# Altium footprint library 直插.PcbLib: 159 footprints (part 9 of 10)
Each footprint in its own frame and in the unit in brackets; x right, y up, seen from the top. Pads: shape width x height; smd on the part's side, far side on the other; paste and mask are expansions set on the pad; w line width, h text height; cw(c..) or ccw(c..) is an arc to the next point about the centre after c.
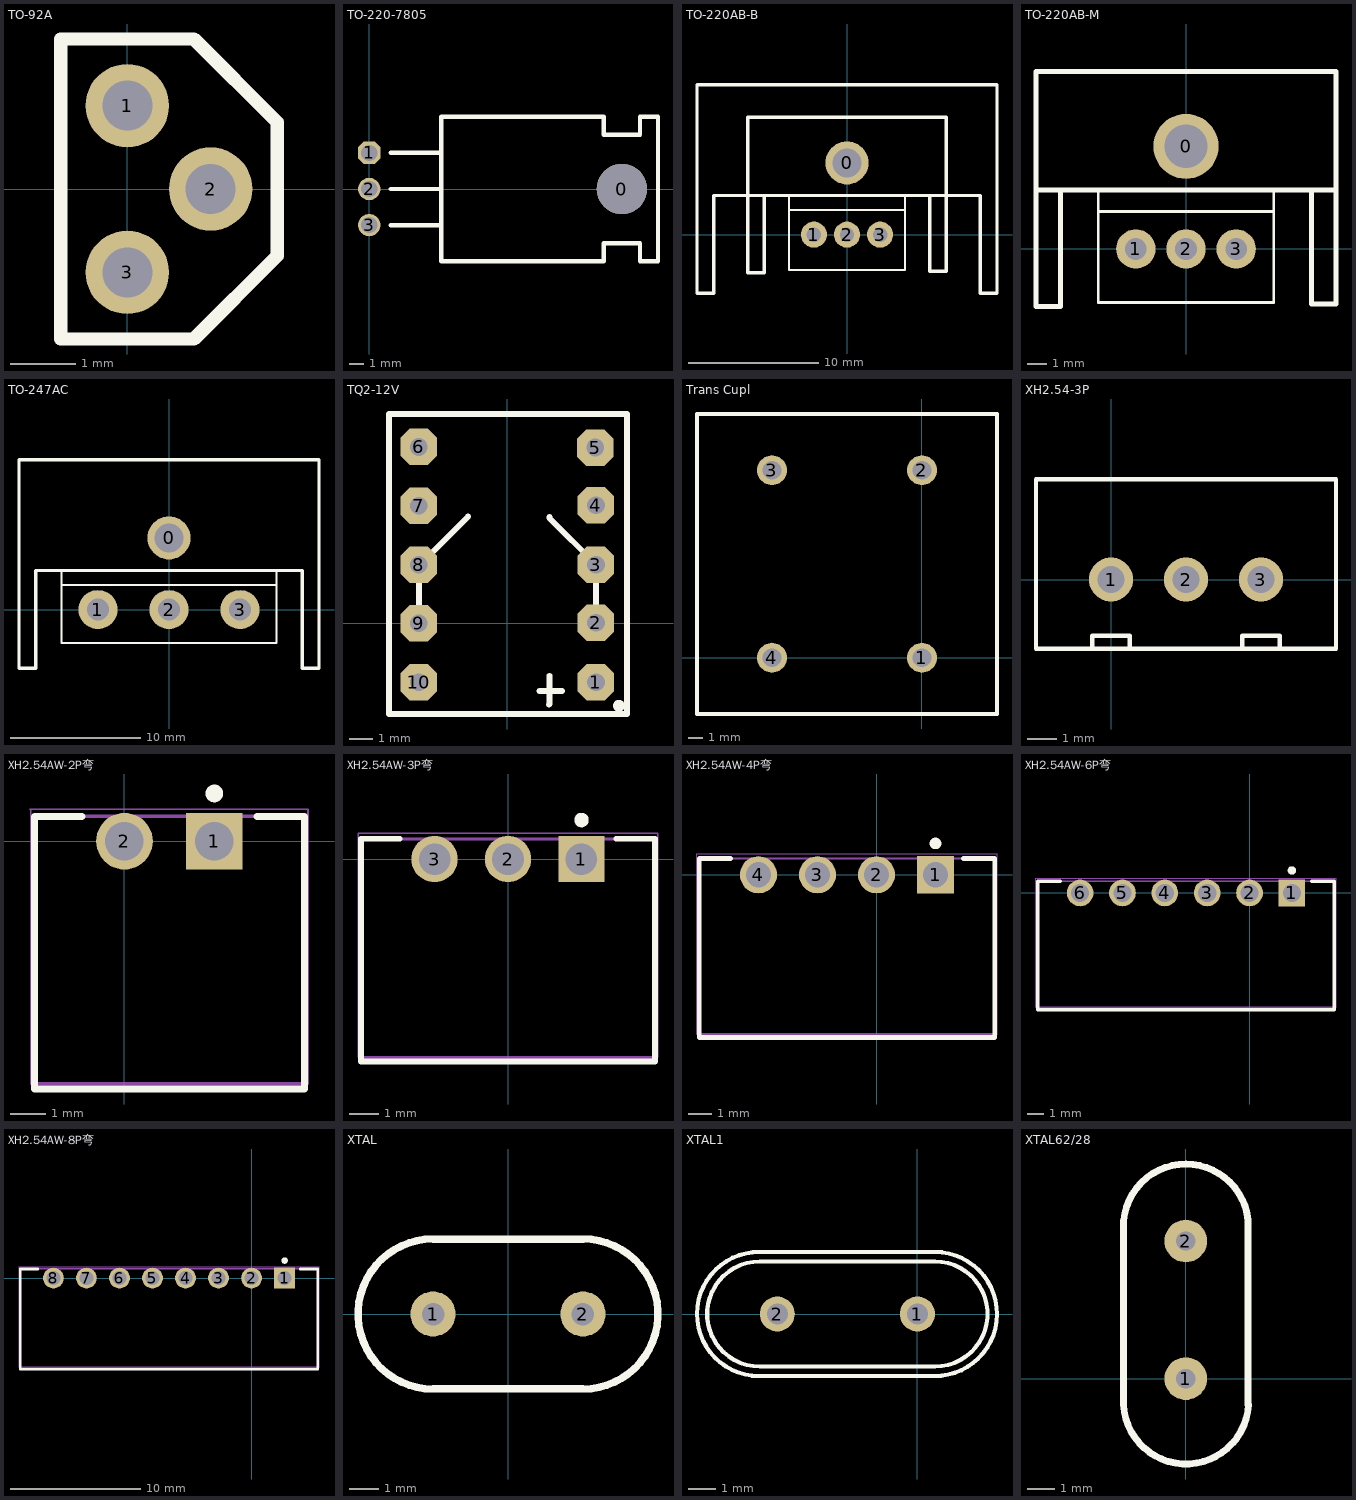
[diagram p8: the footprints below, top view; thin cyan lines are the x and y axes]

## TO-92A [mil]
pads (3):
  round 50 hole 30: 1(0,50) 2(50,0) 3(0,-50)
Top Overlay:
  lines w8: -40,-90 -40,90 40,90 90,40 90,-40 40,-90 -40,-90

## TO-220-7805 [mil]
pads (4):
  round 139.37 hole 137.79: 0(700,0)
  oct 62x62 hole 45: 1(0,100)
  round 62 hole 45: 2(0,0) 3(0,-100)
Top Overlay:
  lines w12: 60,-100 200,-100 ; 60,0 200,0 ; 60,100 200,100 ; 200,-200 200,200 650,200 650,150 750,150 750,200 800,200 800,-200 750,-200 750,-150 650,-150 650,-200 200,-200

## TO-220AB-B [mm] "IRFZ44N"
height 22
pads (4):
  round 3.3 hole 2.2: 0(0,5.5)
  round 2 hole 1.1: 1(-2.54,0) 2(0,0) 3(2.54,0)
Top Overlay:
  lines w0.15: -4.445,3 -4.445,1.905 ; 4.445,3 4.445,1.905 ; -4.445,1.905 -4.445,-2.7 4.445,-2.7 4.445,1.905 ; -4.445,1.905 4.445,1.905
  lines w0.254: -10.215,2.993 -10.215,-4.5 -11.5,-4.5 -11.5,11.5 11.5,11.5 11.5,-4.5 10.215,-4.5 10.215,3 -10.215,3 ; -7.6,3 7.6,3 ; -6.35,3 -6.35,-2.921 -7.6,-2.921 -7.6,9 7.6,9 7.6,-2.794 6.35,-2.794 6.35,3

## TO-220AB-M [mm] "IRFZ44N"
height 22
pads (4):
  round 3.3 hole 2.2: 0(0,5.2)
  round 2 hole 1.1: 1(-2.54,0) 2(0,0) 3(2.54,0)
Top Overlay:
  lines w0.15: -4.445,3 -4.445,1.905 ; 4.445,3 4.445,1.905 ; -4.445,1.905 4.445,1.905 ; -4.445,1.905 -4.445,-2.7 4.445,-2.7 4.445,1.905
  lines w0.254: -7.6,3 7.6,3 ; -6.35,3 -6.35,-2.921 -7.6,-2.921 -7.6,9 7.6,9 7.6,-2.794 6.35,-2.794 6.35,3

## TO-247AC [mm] "IRFP044"
height 25
pads (4):
  round 3.3 hole 2.2: 0(0,5.5)
  round 3 hole 1.7: 1(-5.45,0) 2(0,0) 3(5.45,0)
Top Overlay:
  lines w0.15: -8.255,3 -8.255,-2.54 8.255,-2.54 8.255,3 ; -8.128,1.905 8.255,1.905
  lines w0.254: -10.215,2.993 -10.215,-4.5 -11.5,-4.5 -11.5,11.5 11.5,11.5 11.5,-4.5 10.215,-4.5 10.215,3 -10.215,3

## TQ2-12V [mil]
height 68.9
pads (10):
  oct 62x62 hole 30: 1(151,-100) 2(151,1) 3(151,100) 4(151,201) 5(150,299) 6(-150,300) 7(-150,200) 8(-150,100) 9(-150,0) 10(-150,-100)
Top Overlay:
  circle w10: c190,-140 r5
  lines w10: -150,0 -150,100 -143,107 ; -148,99 -142,99 ; -144,104 -66.5,181.5 ; 55,-115 93,-115 ; 71,-138 72,-137 72,-89 ; 72,181 72,179 151,100 151,1 ; -201,-154 -201,356 204,356 204,-154 -201,-154

## Trans Cupl [mil]
pads (4):
  round 80 hole 50: 1(0,0) 2(0,500) 3(-400,500) 4(-400,0)
Top Overlay:
  lines w10: -600,-150 -600,650 200,650 200,-150 -600,-150

## XH2.54-3P [mm] "XH2.54-3P座子"
height 7
pads (3):
  round 1.5 hole 0.9: 1(0,0) 2(2.54,0) 3(5.08,0)
Top Overlay:
  lines w0.15: -0.635,-2.35 -0.635,-1.905 0.635,-1.905 0.635,-2.35 ; 4.445,-2.35 4.445,-1.905 5.715,-1.905 5.715,-2.35 ; -2.54,-2.35 7.62,-2.35 7.62,3.4 -2.54,3.4 -2.54,-2.35

## XH2.54AW-2P弯 [mm] "Male Header, 2-Leads, Body 13.59x10.17mm, Pitch 2.54mm"
height 6.99
pads (2):
  rect 1.6x1.6 hole 1.09: 1(2.54,0)
  round 1.6 hole 1.09: 2(0,0)
Top Overlay:
  circle w0.25: c2.54,1.35 r0.125
  lines w0.2: -2.545,-7 5.085,-7 5.085,0.7 3.74,0.7 ; -2.545,-6.985 -2.545,0.7 -1.2,0.7
Mechanical 13:
  lines w0.1: -2.545,-6.858 5.017,-6.858 5.085,-6.79 5.085,0.7 -2.545,0.7 -2.545,-6.858
Mechanical 15:
  lines w0.05: -2.667,0.9 5.185,0.9 5.185,-6.858 -2.545,-6.858 ; -2.645,-6.858 -2.645,0.9
  lines w0.1: -0.5,0 0.5,0 ; 0,-0.5 0,0.5

## XH2.54AW-3P弯 [mm] "Male Header, 3-Leads, Body 13.59x10.17mm, Pitch 2.54mm"
height 6.99
pads (3):
  rect 1.6x1.6 hole 1.09: 1(2.54,0)
  round 1.6 hole 1.09: 2(0,0) 3(-2.54,0)
Top Overlay:
  circle w0.25: c2.54,1.35 r0.125
  lines w0.2: -5.085,-7 5.085,-7 5.085,0.7 3.74,0.7 ; -5.085,-6.985 -5.085,0.7 -3.74,0.7
Mechanical 13:
  lines w0.1: -5.085,-6.858 -5.085,0.7 5.085,0.7 5.085,-6.79 5.017,-6.858 -5.085,-6.858
Mechanical 15:
  lines w0.05: -5.185,-6.858 -5.185,0.9 5.185,0.9 5.185,-6.858 -5.185,-6.858
  lines w0.1: -0.5,0 0.5,0 ; 0,-0.5 0,0.5

## XH2.54AW-4P弯 [mm] "Male Header, 4-Leads, Body 13.59x10.17mm, Pitch 2.54mm"
height 6.99
pads (4):
  rect 1.6x1.6 hole 1.09: 1(2.54,0)
  round 1.6 hole 1.09: 2(0,0) 3(-2.54,0) 4(-5.08,0)
Top Overlay:
  circle w0.25: c2.54,1.35 r0.125
  lines w0.2: -7.625,-7 5.085,-7 5.085,0.7 3.74,0.7 ; -7.625,-6.985 -7.625,0.7 -6.28,0.7
Mechanical 13:
  lines w0.1: -7.625,-6.858 -7.625,0.7 5.085,0.7 5.085,-6.79 5.017,-6.858 -7.625,-6.858
Mechanical 15:
  lines w0.05: -7.725,-6.858 -7.725,0.9 5.185,0.9 5.185,-6.858 -7.725,-6.858
  lines w0.1: -0.5,0 0.5,0 ; 0,-0.5 0,0.5

## XH2.54AW-6P弯 [mm] "Male Header, 6-Leads, Body 13.59x10.17mm, Pitch 2.54mm"
height 6.99
pads (6):
  rect 1.6x1.6 hole 1.09: 1(2.54,0)
  round 1.6 hole 1.09: 2(0,0) 3(-2.54,0) 4(-5.08,0) 5(-7.62,0) 6(-10.16,0)
Top Overlay:
  circle w0.25: c2.54,1.35 r0.125
  lines w0.2: -12.705,-7 5.085,-7 5.085,0.7 3.74,0.7 ; -12.705,-6.985 -12.705,0.7 -11.36,0.7
Mechanical 13:
  lines w0.1: -12.705,-6.858 -12.705,0.7 5.085,0.7 5.085,-6.79 5.017,-6.858 -12.705,-6.858
Mechanical 15:
  lines w0.05: -12.805,-6.858 -12.805,0.889 5.185,0.889 5.185,-6.858 -12.805,-6.858
  lines w0.1: -0.5,0 0.5,0 ; 0,-0.5 0,0.5

## XH2.54AW-8P弯 [mm] "Male Header, 8-Leads, Body 13.59x10.17mm, Pitch 2.54mm"
height 6.99
pads (8):
  rect 1.6x1.6 hole 1.09: 1(2.54,0)
  round 1.6 hole 1.09: 2(0,0) 3(-2.54,0) 4(-5.08,0) 5(-7.62,0) 6(-10.16,0) 7(-12.7,0) 8(-15.24,0)
Top Overlay:
  circle w0.25: c2.54,1.35 r0.125
  lines w0.2: -17.785,-7 5.085,-7 5.085,0.7 3.74,0.7 ; -17.785,-6.985 -17.785,0.7 -16.44,0.7
Mechanical 13:
  lines w0.1: -17.785,-6.858 5.017,-6.858 5.085,-6.79 5.085,0.7 -17.785,0.7 -17.785,-6.858
Mechanical 15:
  lines w0.05: -17.885,-6.858 5.185,-6.858 5.185,0.889 -17.885,0.889 -17.885,-6.858
  lines w0.1: -0.5,0 0.5,0 ; 0,-0.5 0,0.5

## XTAL [mil]
pads (2):
  round 60 hole 30: 1(-100,0) 2(100,0)
Top Overlay:
  lines w10: -100,-100 cw(c-100,0) -100,100 100,100 cw(c100,0) 100,-100 -100,-100

## XTAL1 [mil]
pads (2):
  round 50 hole 30: 1(0,0) 2(-200,0)
Top Overlay:
  lines w6: -226,-88.58 cw(c-226,0) -225.09,88.58 24.99,88.58 cw(c25,0) 24.07,-88.58 -226,-88.58 ; -225,-75 cw(c-225,0) -225,75 25,75 cw(c25,0) 25,-75 -225,-75

## XTAL62/28 [mil]
pads (2):
  round 62 hole 28: 1(0,0) 2(0,200)
Top Overlay:
  lines w10: -90.55,229.92 -90.55,-37.8 ccw(c0.33,-33.12) 91.19,-38.04 ; -90.25,229.97 cw(c0.15,221.22) 90.55,229.92 90.55,-38